# Altium footprint library CEP-2242.PcbLib: 1 footprints
Each footprint in its own frame and in the unit in brackets; x right, y up, seen from the top. Pads: shape width x height; smd on the part's side, far side on the other; paste and mask are expansions set on the pad; w line width, h text height; cw(c..) or ccw(c..) is an arc to the next point about the centre after c.
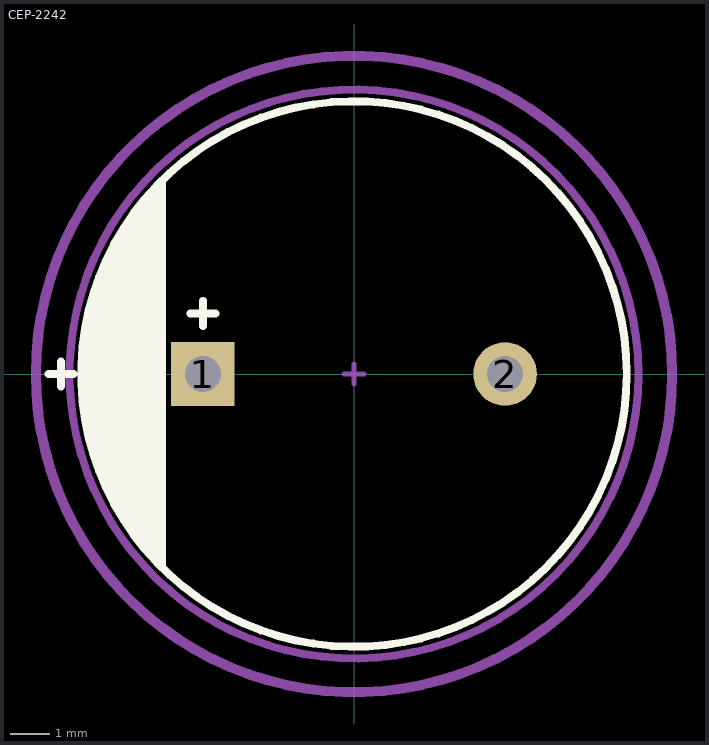
[diagram p0: the footprint, top view; thin cyan lines are the x and y axes]

## CEP-2242 [mm]
pads (2):
  rect 1.6x1.6 hole 0.9: 1(-3.8,0)
  round 1.6 hole 0.9: 2(3.8,0)
Top Overlay:
  circle w0.2: c0,0 r6.858
  region: -4.826,3.683 -4.826,4.826 -5.842,3.556 -6.074,3.039 -6.477,2.413 -6.477,2.032 -6.731,1.397 -6.731,0.889 -6.858,0.127 -6.858,0 -6.731,-1.016 -6.731,-1.651 -6.477,-2.032 -6.477,-2.159 -6.35,-2.54 -6.074,-3.048 -5.969,-3.429 -5.334,-4.318 -4.826,-4.826
  lines w0.2: -7.683,0 -7.048,0 ; -7.366,-0.318 -7.366,0.318 ; -4.826,-4.826 -4.826,4.826 ; -4.118,1.524 -3.483,1.524 ; -3.8,1.206 -3.8,1.841
Top Assembly:
  circle w0.2: c0,0 r7.153
Top Courtyard:
  circle w0.254: c0,0 r8.001
  lines w0.127: -0.254,0 0.254,0 ; 0,-0.254 0,0.254
3D body "CUI_DEVICES_CEP-2242.step": height 7.6, standoff -6.2, extent -6.85,-6.85 6.85,6.85